# Altium schematic symbol library SnapEDAsch.SchLib: 1 symbol
Pins are listed as number, name and electrical type; pins without a type are passive.

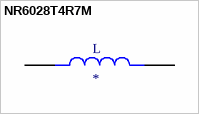
[diagram p0: symbol NR6028T4R7M]

## NR6028T4R7M
designator L
4.7ÂµH Shielded Wirewound Inductor 3A 40.3mOhm Max Nonstandard; MF: Taiyo Yuden; MP: NR6028T4R7M; Price: None; Availability: Unavailable; Package: Nonstandard Taiyo Yuden; SnapEDA_Link: https://www.snapeda.com/parts/NR6028T4R7M/Taiyo%20Yuden/view-part/551964/?ref=snap; Value: *
footprint IND_NR6028T4R7M
pins: 1, 2